# EAGLE library part TPS6120?-* (library Power)
TPS6120x - Step Up Vout TPS61200 Adjustable TPS61201 3.3v TPS61202 5v Datasheet <brendanhaines.com/datasheets/TPS6120x.pdf> Digikey: 296-44338-1-ND
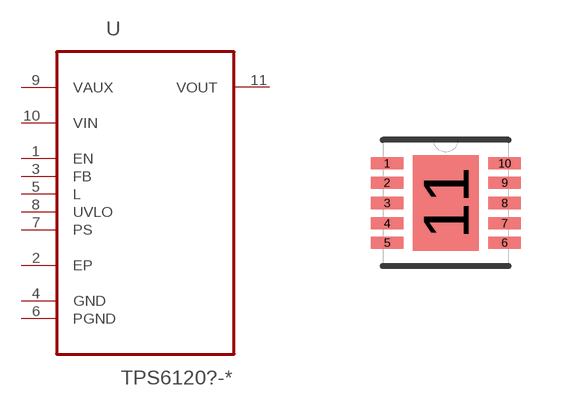
[diagram p0: symbol with the pads of 10-VFDFN; footprint 10-VFDFN]

Designator prefix U

## TPS61200-ADJUSTABLE  [10-VFDFN]
1  EN  in
2  EP  pas
3  FB  in
4  GND  pas
5  L  in
6  PGND  pas
7  PS  in
8  UVLO  in
9  VAUX
10  VIN  in
11  VOUT  out

## TPS61201-3.3V  [10-VFDFN]
Pads as for 10-VFDFN

## TPS61202-5V  [10-VFDFN]
Pads as for 10-VFDFN

## Footprint 10-VFDFN (pad centres in mm)
smd 0.813 x 0.305: 1 -1.473,0.991; 2 -1.473,0.508; 3 -1.473,0; 4 -1.473,-0.508; 5 -1.473,-0.991; 6 1.473,-0.991; 7 1.473,-0.508; 8 1.473,0; 9 1.473,0.508; 10 1.473,0.991
smd 1.651 x 2.388: 11 0,0